# Altium footprint library 4_1775099_1.PcbLib: 1 footprints
Each footprint in its own frame and in the unit in brackets; x right, y up, seen from the top. Pads: shape width x height; smd on the part's side, far side on the other; paste and mask are expansions set on the pad; w line width, h text height; cw(c..) or ccw(c..) is an arc to the next point about the centre after c.
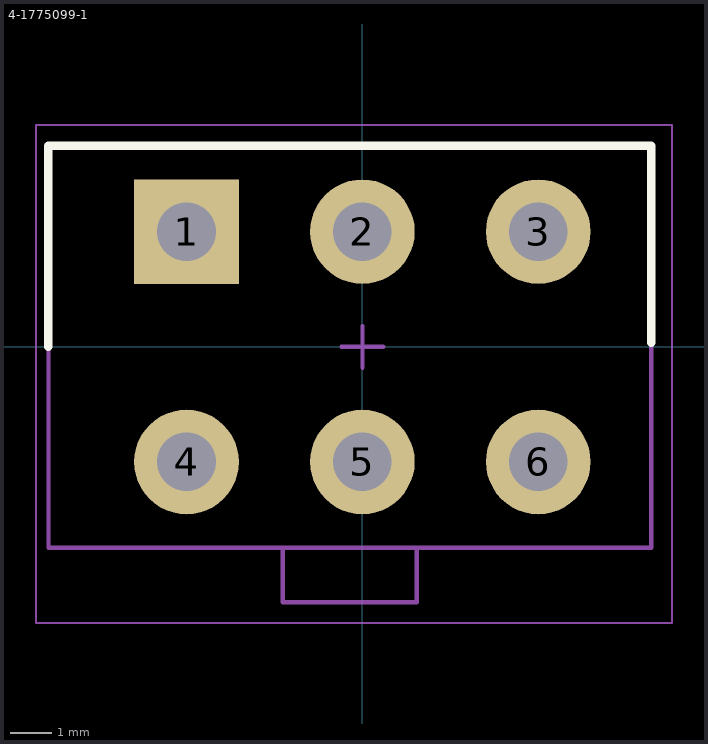
[diagram p0: the footprint, top view; thin cyan lines are the x and y axes]

## 4-1775099-1 [mm]
height 12.8
pads (6):
  rect 2.5x2.5 hole 1.4: 1(-4.2,2.75)
  round 2.5 hole 1.4: 2(0,2.75) 3(4.2,2.75) 4(-4.2,-2.75) 5(0,-2.75) 6(4.2,-2.75)
Top Overlay:
  lines w0.2: -7.5,0 -7.5,4.8 2.1,4.8 6.9,4.8 6.9,0.1
Top Comment:
  text ".Comment" at 0.7,5.7 h1.2
Top Designator:
  text ".Designator" at -0.7,5.7 h1.2
Top Component Outline:
  lines w0.1: 1.3,-4.8 1.3,-6.1 -1.9,-6.1 -1.9,-4.8 6.9,-4.8 ; 6.9,-4.8 -7.5,-4.8 -7.5,4.8 1,4.8 6.8,4.8 6.9,4.8 6.9,-4.8
Top Courtyard (Mech15):
  lines w0.05: -7.8,-6.6 7.4,-6.6 7.4,5.3 1.2,5.3 -7.8,5.3 -7.8,-6.6
  lines w0.1: -0.5,0 0.5,0 ; 0,-0.5 0,0.5
3D body "c-4-1775099-1-e-3d.stp": height 12.8, standoff -3.2, extent -7.2,-6.15 6.85,4.75